# Altium schematic symbol library WE-PPTM.SchLib: 9 symbols
Pins are listed as number, name and electrical type; pins without a type are passive.

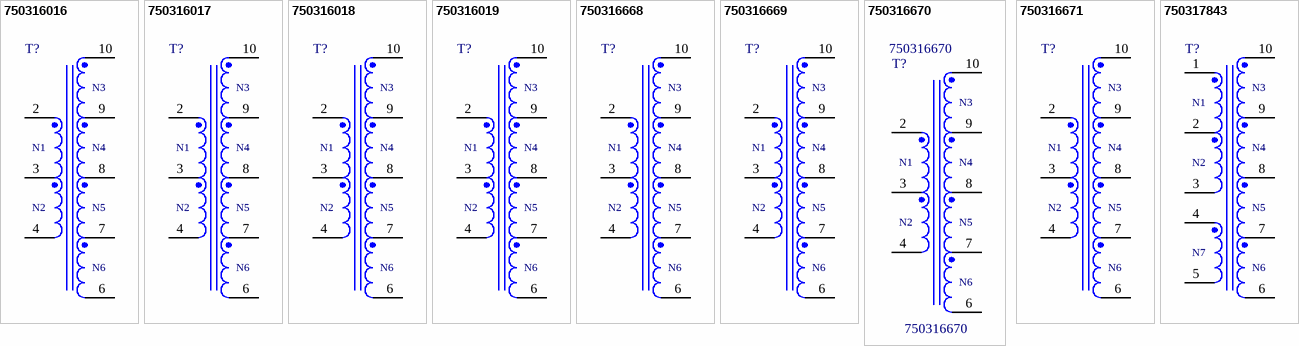
[diagram p0: symbols 750316016 to 750317843]

## 750316016
designator T?  (value not drawn)
WE-PPTM Push-Pull Tiny Multi-Output Transformer, size 1212, Ui = 5VDC, Uo1 = 12.85V / 0.1A, , Uo2 = 5.7V / 0.2A, , Uo3 = -5.7V / 0.2A, , Uo4 = -12.85V / 0.095A; Manufacturer: Wurth Elektronik; Case/Size Code: 1212; Inductance: 60μH; Insulation Test Voltage: 3125V (AC); Switching Frequency: 400kHz; Turns Ratio: 1:2.57:1.14; Type of Insulation: Functional; Voltage-µSecond: 8.9Vμs; Manufacturer Part Number: 750316016; Category: Transformers For DC-DC Converter; Match Code: WE-PPTM; ComponentLink1Description: Website Link; ComponentLink1URL: https://www.we-online.com/redexpert/article/750316016?ad; ComponentLink2Description: Datasheet Link; ComponentLink2URL: https://www.we-online.com/redexpert/spec/750316016?ad; Mount: Surface Mount; Min Operating Temperature: -40°C; Max Operating Temperature: 125°C; Packaging: Tape and Reel; Length: 12.6mm; Width: 11.63mm; Height: 3.68mm; Input Voltage: 5VDC; Output Current 1: 0.1A; Output Current 2: 0.2A; Output Current 3: 0.2A; Output Current 4: 0.095A; Output Voltage 1: 12.85V; Output Voltage 2: 5.7V; Output Voltage 3: -5.7V; Output Voltage 4: -12.85V
footprint WE-PPTM_1212
pins: 2, 3, 4, 6, 7, 8, 9, 10
text: N3; N1; N4; N2; N5; N6

## 750316017
designator T?  (value not drawn)
WE-PPTM Push-Pull Tiny Multi-Output Transformer, size 1212, Ui = 5VDC, Uo1 = 12.85V / 0.1A, , Uo2 = 4.27V / 0.2A, , Uo3 = -4.27V / 0.2A, , Uo4 = -12.85V / 0.095A; Manufacturer: Wurth Elektronik; Case/Size Code: 1212; Inductance: 60μH; Insulation Test Voltage: 3125V (AC); Switching Frequency: 400kHz; Turns Ratio: 1.17:3:1; Type of Insulation: Functional; Voltage-µSecond: 8.9Vμs; Manufacturer Part Number: 750316017; Category: Transformers For DC-DC Converter; Match Code: WE-PPTM; ComponentLink1Description: Website Link; ComponentLink1URL: https://www.we-online.com/redexpert/article/750316017?ad; ComponentLink2Description: Datasheet Link; ComponentLink2URL: https://www.we-online.com/redexpert/spec/750316017?ad; Mount: Surface Mount; Min Operating Temperature: -40°C; Max Operating Temperature: 125°C; Packaging: Tape and Reel; Length: 12.6mm; Width: 11.63mm; Height: 3.68mm; Input Voltage: 5VDC; Output Current 1: 0.1A; Output Current 2: 0.2A; Output Current 3: 0.2A; Output Current 4: 0.095A; Output Voltage 1: 12.85V; Output Voltage 2: 4.27V; Output Voltage 3: -4.27V; Output Voltage 4: -12.85V
footprint WE-PPTM_1212
pins: 2, 3, 4, 6, 7, 8, 9, 10
text: N3; N1; N4; N2; N5; N6

## 750316018
designator T?  (value not drawn)
WE-PPTM Push-Pull Tiny Multi-Output Transformer, size 1212, Ui = 5VDC, Uo1 = 15.7V / 0.085A, , Uo2 = 5.7V / 0.2A, , Uo3 = -5.7V / 0.2A, , Uo4 = -15.7V / 0.085A; Manufacturer: Wurth Elektronik; Case/Size Code: 1212; Inductance: 60μH; Insulation Test Voltage: 3125V (AC); Switching Frequency: 400kHz; Turns Ratio: 1:3.14:1.14; Type of Insulation: Functional; Voltage-µSecond: 8.9Vμs; Manufacturer Part Number: 750316018; Category: Transformers For DC-DC Converter; Match Code: WE-PPTM; ComponentLink1Description: Website Link; ComponentLink1URL: https://www.we-online.com/redexpert/article/750316018?ad; ComponentLink2Description: Datasheet Link; ComponentLink2URL: https://www.we-online.com/redexpert/spec/750316018?ad; Mount: Surface Mount; Min Operating Temperature: -40°C; Max Operating Temperature: 125°C; Packaging: Tape and Reel; Length: 12.6mm; Width: 11.63mm; Height: 3.68mm; Input Voltage: 5VDC; Output Current 1: 0.085A; Output Current 2: 0.2A; Output Current 3: 0.2A; Output Current 4: 0.085A; Output Voltage 1: 15.7V; Output Voltage 2: 5.7V; Output Voltage 3: -5.7V; Output Voltage 4: -15.7V
footprint WE-PPTM_1212
pins: 2, 3, 4, 6, 7, 8, 9, 10
text: N3; N1; N4; N2; N5; N6

## 750316019
designator T?  (value not drawn)
WE-PPTM Push-Pull Tiny Multi-Output Transformer, size 1212, Ui = 5VDC, Uo1 = 15.7V / 0.1A, , Uo2 = 4.27V / 0.2A, , Uo3 = -4.27V / 0.2A, , Uo4 = -15.7V / 0.095A; Manufacturer: Wurth Elektronik; Case/Size Code: 1212; Inductance: 60μH; Insulation Test Voltage: 3125V (AC); Switching Frequency: 400kHz; Turns Ratio: 1.17:3.67:1; Type of Insulation: Functional; Voltage-µSecond: 8.9Vμs; Manufacturer Part Number: 750316019; Category: Transformers For DC-DC Converter; Match Code: WE-PPTM; ComponentLink1Description: Website Link; ComponentLink1URL: https://www.we-online.com/redexpert/article/750316019?ad; ComponentLink2Description: Datasheet Link; ComponentLink2URL: https://www.we-online.com/redexpert/spec/750316019?ad; Mount: Surface Mount; Min Operating Temperature: -40°C; Max Operating Temperature: 125°C; Packaging: Tape and Reel; Length: 12.6mm; Width: 11.63mm; Height: 3.68mm; Input Voltage: 5VDC; Output Current 1: 0.1A; Output Current 2: 0.2A; Output Current 3: 0.2A; Output Current 4: 0.095A; Output Voltage 1: 15.7V; Output Voltage 2: 4.27V; Output Voltage 3: -4.27V; Output Voltage 4: -15.7V
footprint WE-PPTM_1212
pins: 2, 3, 4, 6, 7, 8, 9, 10
text: N3; N1; N4; N2; N5; N6

## 750316668
designator T?  (value not drawn)
WE-PPTM Push-Pull Tiny Multi-Output Transformer, size 1212TB, Ui = 5VDC, Uo1 = 12.85V / 0.1A, , Uo2 = 5.7V / 0.2A, , Uo3 = -5.7V / 0.2A, , Uo4 = -12.85V / 0.095A; Manufacturer: Wurth Elektronik; Inductance: 60μH; Insulation Test Voltage: 3125V (AC); Switching Frequency: 400kHz; Turns Ratio: 1:2.57:1.14; Type of Insulation: Functional; Voltage-µSecond: 8.9Vμs; Manufacturer Part Number: 750316668; Category: Transformers For DC-DC Converter; Match Code: WE-PPTM; ComponentLink1Description: Website Link; ComponentLink1URL: https://www.we-online.com/redexpert/article/750316668?ad; ComponentLink2Description: Datasheet Link; ComponentLink2URL: https://www.we-online.com/redexpert/spec/750316668?ad; Mount: Surface Mount; Min Operating Temperature: -40°C; Max Operating Temperature: 125°C; Packaging: Tape and Reel; Case/Size Code: 1212TB; Length: 12.6mm; Width: 11.63mm; Height: 1.98mm; Input Voltage: 5VDC; Output Current 1: 0.1A; Output Current 2: 0.2A; Output Current 3: 0.2A; Output Current 4: 0.095A; Output Voltage 1: 12.85V; Output Voltage 2: 5.7V; Output Voltage 3: -5.7V; Output Voltage 4: -12.85V
footprint WE-PPTM_1212TB
pins: 2, 3, 4, 6, 7, 8, 9, 10
text: N3; N1; N4; N2; N5; N6

## 750316669
designator T?  (value not drawn)
WE-PPTM Push-Pull Tiny Multi-Output Transformer, size 1212TB, Ui = 5VDC, Uo1 = 12.85V / 0.1A, , Uo2 = 4.27V / 0.2A, , Uo3 = -4.27V / 0.2A, , Uo4 = -12.85V / 0.095A; Manufacturer: Wurth Elektronik; Inductance: 60μH; Insulation Test Voltage: 3125V (AC); Switching Frequency: 400kHz; Turns Ratio: 1.17:3:1; Type of Insulation: Functional; Voltage-µSecond: 8.9Vμs; Manufacturer Part Number: 750316669; Category: Transformers For DC-DC Converter; Match Code: WE-PPTM; ComponentLink1Description: Website Link; ComponentLink1URL: https://www.we-online.com/redexpert/article/750316669?ad; ComponentLink2Description: Datasheet Link; ComponentLink2URL: https://www.we-online.com/redexpert/spec/750316669?ad; Mount: Surface Mount; Min Operating Temperature: -40°C; Max Operating Temperature: 125°C; Packaging: Tape and Reel; Case/Size Code: 1212TB; Length: 12.6mm; Width: 11.63mm; Height: 1.98mm; Input Voltage: 5VDC; Output Current 1: 0.1A; Output Current 2: 0.2A; Output Current 3: 0.2A; Output Current 4: 0.095A; Output Voltage 1: 12.85V; Output Voltage 2: 4.27V; Output Voltage 3: -4.27V; Output Voltage 4: -12.85V
footprint WE-PPTM_1212TB
pins: 2, 3, 4, 6, 7, 8, 9, 10
text: N3; N1; N4; N2; N5; N6

## 750316670
designator T?
WE-PPTM Push-Pull Tiny Multi-Output Transformer, size 1212TB, Ui = 5VDC, Uo1 = 15.7V / 0.085A, , Uo2 = 5.7V / 0.2A, , Uo3 = -5.7V / 0.2A, , Uo4 = -15.7V / 0.085A; Manufacturer: Wurth Elektronik; Inductance: 60μH; Insulation Test Voltage: 3125V (AC); Switching Frequency: 400kHz; Turns Ratio: 1:3.14:1.14; Type of Insulation: Functional; Voltage-µSecond: 8.9Vμs; Category: Transformers For DC-DC Converter; Match Code: WE-PPTM; ComponentLink1Description: Website Link; ComponentLink1URL: https://www.we-online.com/redexpert/article/750316670?ad; ComponentLink2Description: Datasheet Link; ComponentLink2URL: https://www.we-online.com/redexpert/spec/750316670?ad; Mount: Surface Mount; Min Operating Temperature: -40°C; Max Operating Temperature: 125°C; Packaging: Tape and Reel; Case/Size Code: 1212TB; Length: 12.6mm; Width: 11.63mm; Height: 1.98mm; Input Voltage: 5VDC; Output Current 1: 0.085A; Output Current 2: 0.2A; Output Current 3: 0.2A; Output Current 4: 0.085A; Output Voltage 1: 15.7V; Output Voltage 2: 5.7V; Output Voltage 3: -5.7V; Output Voltage 4: -15.7V; Manufacturer Part Number: 750316670
footprint WE-PPTM_1212TB
pins: 2, 3, 4, 6, 7, 8, 9, 10
text: N3; N1; N4; N2; N5; N6

## 750316671
designator T?  (value not drawn)
WE-PPTM Push-Pull Tiny Multi-Output Transformer, size 1212TB, Ui = 5VDC, Uo1 = 15.7V / 0.1A, , Uo2 = 4.27V / 0.2A, , Uo3 = -4.27V / 0.2A, , Uo4 = -15.7V / 0.095A; Manufacturer: Wurth Elektronik; Inductance: 60μH; Insulation Test Voltage: 3125V (AC); Switching Frequency: 400kHz; Turns Ratio: 1.17:3.67:1; Type of Insulation: Functional; Voltage-µSecond: 8.9Vμs; Manufacturer Part Number: 750316671; Category: Transformers For DC-DC Converter; Match Code: WE-PPTM; ComponentLink1Description: Website Link; ComponentLink1URL: https://www.we-online.com/redexpert/article/750316671?ad; ComponentLink2Description: Datasheet Link; ComponentLink2URL: https://www.we-online.com/redexpert/spec/750316671?ad; Mount: Surface Mount; Min Operating Temperature: -40°C; Max Operating Temperature: 125°C; Packaging: Tape and Reel; Case/Size Code: 1212TB; Length: 12.6mm; Width: 11.63mm; Height: 1.98mm; Input Voltage: 5VDC; Output Current 1: 0.1A; Output Current 2: 0.2A; Output Current 3: 0.2A; Output Current 4: 0.095A; Output Voltage 1: 15.7V; Output Voltage 2: 4.27V; Output Voltage 3: -4.27V; Output Voltage 4: -15.7V
footprint WE-PPTM_1212TB
pins: 2, 3, 4, 6, 7, 8, 9, 10
text: N3; N1; N4; N2; N5; N6

## 750317843
designator T?  (value not drawn)
WE-PPTM Push-Pull Tiny Multi-Output Transformer, size 1212TB, Ui = 24VDC, Uo1 = 16.7V / 0.06A, , Uo2 = 5.8V / 0.175A, , Uo3 = -5.8V / 0.175A, , Uo4 = -16.7V / 0.06A; Manufacturer: Wurth Elektronik; Inductance: 1470μH; Insulation Test Voltage: 1500V (AC); Switching Frequency: 400kHz; Turns Ratio: 8.25:5.75:1:1; Type of Insulation: Functional; Voltage-µSecond: 35Vμs; Manufacturer Part Number: 750317843; Category: Transformers For DC-DC Converter; Match Code: WE-PPTM; ComponentLink1Description: Website Link; ComponentLink1URL: https://www.we-online.com/redexpert/article/750317843?ad; ComponentLink2Description: Datasheet Link; ComponentLink2URL: https://www.we-online.com/redexpert/spec/750317843?ad; Mount: Surface Mount; Min Operating Temperature: -40°C; Max Operating Temperature: 125°C; Packaging: Tape and Reel; Case/Size Code: 1212TB; Length: 12.6mm; Width: 11.63mm; Height: 1.98mm; Input Voltage: 24VDC; Output Current 1: 0.06A; Output Current 2: 0.175A; Output Current 3: 0.175A; Output Current 4: 0.06A; Output Voltage 1: 16.7V; Output Voltage 2: 5.8V; Output Voltage 3: -5.8V; Output Voltage 4: -16.7V
footprint WE-PPTM_1212TB
pins: 1, 2, 3, 4, 5, 6, 7, 8, 9, 10
text: N3; N1; N4; N2; N5; N7; N6